# Altium footprint library Bauteilbibliothek.PcbLib: 19 footprints (part 2 of 2)
Each footprint in its own frame and in the unit in brackets; x right, y up, seen from the top. Pads: shape width x height; smd on the part's side, far side on the other; paste and mask are expansions set on the pad; w line width, h text height; cw(c..) or ccw(c..) is an arc to the next point about the centre after c.
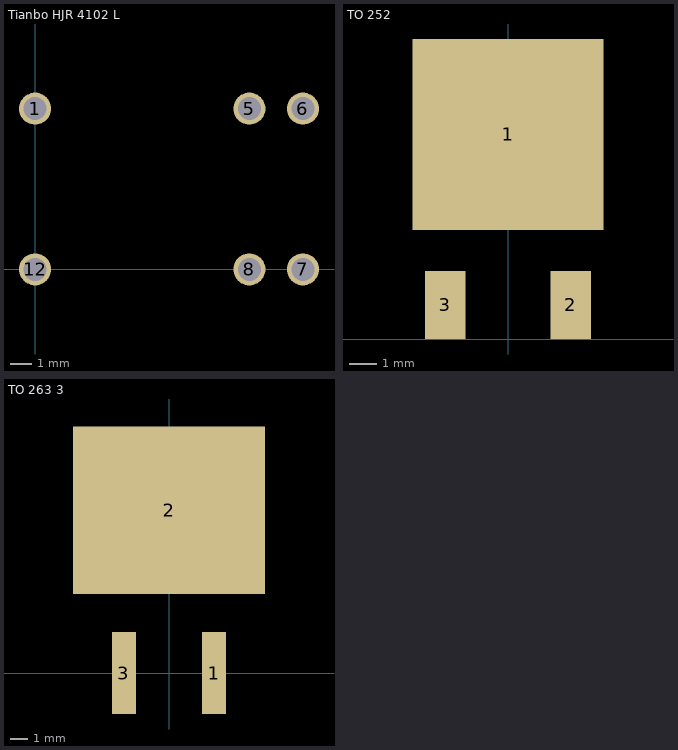
[diagram p1: the footprints below, top view; thin cyan lines are the x and y axes]

## Tianbo HJR 4102 L [mil]
pads (6):
  round 60 hole 43.31: 1(0,300) 5(400,300) 6(500,300) 7(500,0) 8(400,0) 12(0,0)

## TO 252 [mm]
pads (3):
  rect 7x7 smd: 1(0,7.5)
  rect 1.5x2.5 smd: 2(2.3,1.25) 3(-2.3,1.25)

## TO 263 3 [mm]
pads (3):
  rect 1.35x4.6 smd: 1(2.54,0) 3(-2.54,0)
  rect 10.8x9.4 smd: 2(0,9.15)